# EAGLE library part 78253/55C (library eko-parts)
MURATA POWER SOLUTIONS - 78253/55C - TRANSFORMER, CONVERTER, 1:1.31, 1.5KV DIL6
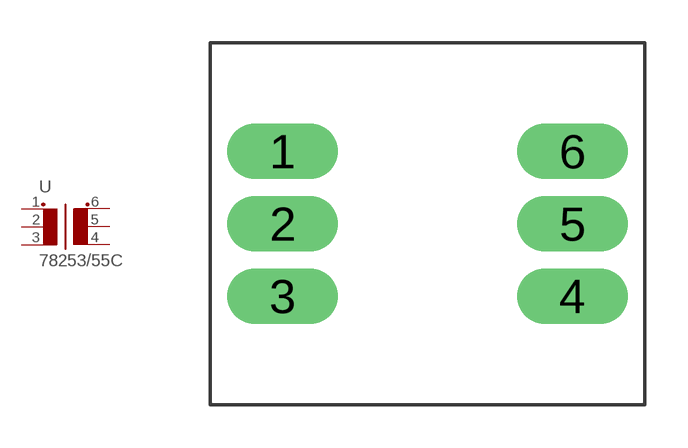
[diagram p1: symbol with the pads of 78253/XXC; footprint 78253/XXC]

Designator prefix -

## 78253/55C  [78253/XXC]
1  P1  pas
2  P2  pas
3  P3  pas
4  S3  pas
5  S2  pas
6  S1  pas

## Footprint 78253/XXC (pad centres in mm)
drill 1.3 long: 1 -5.08,2.54; 2 -5.08,0; 3 -5.08,-2.54; 4 5.08,-2.54; 5 5.08,0; 6 5.08,2.54